# Altium schematic symbol library 87891-0808.SchLib: 1 symbol
Pins are listed as number, name and electrical type; pins without a type are passive.

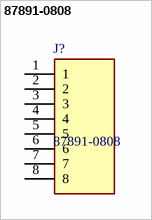
[diagram p0: symbol 87891-0808]

## 87891-0808
designator J?
Headers & Wire Housings 2.54MM PITCH SRSW T/H HEADER 8 CKT; Manufacturer_Name: Molex; Geometry.Height: 16.41mm; Mouser Part Number: 538-87891-0808; Mouser Price/Stock: https://www.mouser.co.uk/ProductDetail/Molex/87891-0808?qs=iLbezkQI%252Bsh%252BavKMBAJgwA%3D%3D; Manufacturer_Part_Number: 87891-0808; Datasheet Link: https://www.molex.com/pdm_docs/sd/878910808_sd.pdf
footprint HDRV8W69P0X254_1X8_2032X251X1641P
pins: 1, 2, 3, 4, 5, 6, 7, 8